# Altium schematic symbol library BGM121A256V1.SchLib: 1 symbol
Pins are listed as number, name and electrical type; pins without a type are passive.

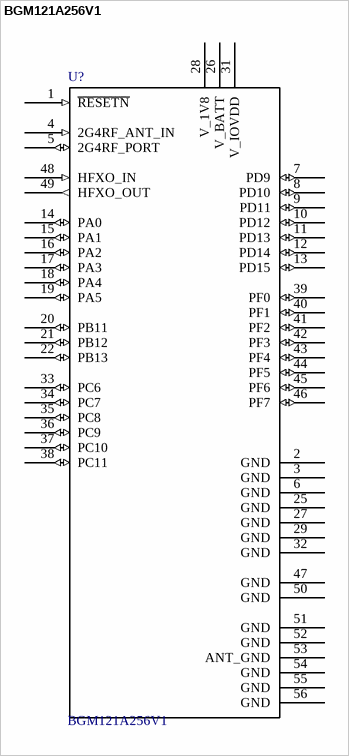
[diagram p0: symbol BGM121A256V1]

## BGM121A256V1
designator U?
BGM121 Bluetooth SIP Module, 8 dBm TX with antenna. Tray.; MF: Silicon Labs; SnapEDA_Link: https://www.snapeda.com/parts/BGM121A256V1/Silicon%20Labs/view-part/?ref=snap; Availability: Unavailable; MP: BGM121A256V1; Price: None; Package: Module Silicon Labs; Value: *
footprint XCVR_BGM121A256V1
pins: 1 ~{RESETN} (in), 2 GND (power), 3 GND (power), 4 2G4RF_ANT_IN (in), 5 2G4RF_PORT (io), 6 GND (power), 7 PD9 (io), 8 PD10 (io), 9 PD11 (io), 10 PD12 (io), 11 PD13 (io), 12 PD14 (io), 13 PD15 (io), 14 PA0 (io), 15 PA1 (io), 16 PA2 (io), 17 PA3 (io), 18 PA4 (io), 19 PA5 (io), 20 PB11 (io), 21 PB12 (io), 22 PB13 (io), 25 GND (power), 26 V_BATT (power), 27 GND (power), 28 V_1V8 (power), 29 GND (power), 31 V_IOVDD (power), 32 GND (power), 33 PC6 (io), 34 PC7 (io), 35 PC8 (io), 36 PC9 (io), 37 PC10 (io), 38 PC11 (io), 39 PF0 (io), 40 PF1 (io), 41 PF2 (io), 42 PF3 (io), 43 PF4 (io), 44 PF5 (io), 45 PF6 (io), 46 PF7 (io), 47 GND (power), 48 HFXO_IN (in), 49 HFXO_OUT (out), 50 GND (power), 51 GND (power), 52 GND (power), 53 ANT_GND (power), 54 GND (power), 55 GND (power), 56 GND (power)